# Altium footprint library belfuse_v8br-1ax1-gh.PcbLib: 1 footprints
Each footprint in its own frame and in the unit in brackets; x right, y up, seen from the top. Pads: shape width x height; smd on the part's side, far side on the other; paste and mask are expansions set on the pad; w line width, h text height; cw(c..) or ccw(c..) is an arc to the next point about the centre after c.
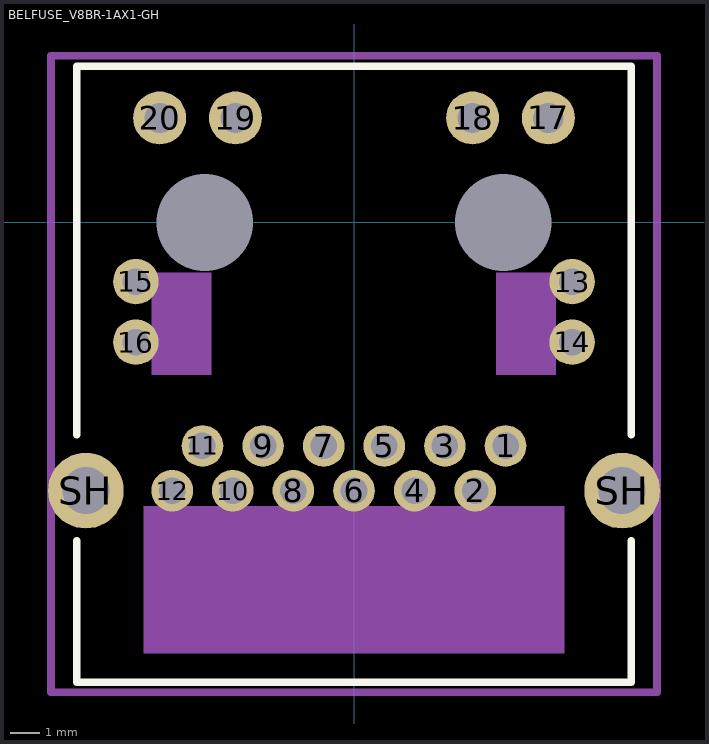
[diagram p0: the footprint, top view; thin cyan lines are the x and y axes]

## BELFUSE_V8BR-1AX1-GH [mil]
height 670
pads (24):
  round 0 hole 128: 0(-197,0) 0(197,0)
  round 55 hole 35: 1(200,-295) 2(160,-354) 3(120,-295) 4(80,-354) 5(40,-295) 6(0,-354) 7(-40,-295) 8(-80,-354) 9(-120,-295) 10(-160,-354) 11(-200,-295) 12(-240,-354)
  round 60 hole 35: 13(288,-78) 14(288,-158) 15(-288,-78) 16(-288,-158)
  round 70 hole 40: 17(256.5,138) 18(156.5,138) 19(-156.5,138) 20(-256.5,138)
  round 100 hole 62: SH(-354,-354) SH(354,-354)
Top Overlay:
  lines w10: -366,-420 -366,-607 366,-607 366,-420 ; -366,-280 -366,206 366,206 366,-280
Top Courtyard:
  lines w10: -400,-620 400,-620 400,220 -400,220 -400,-620
Top Designator:
  rectangle: -267,-201 -188,-66
  rectangle: 187.5,-201 266.5,-66
  rectangle: -278,-569 278,-374
  text ".Designator" at -82,-18.67 h40
3D body "V8BR-1AX1-GH v2.step": height 670.5, standoff -125.5, extent -366,-607 366,206